# Altium schematic symbol library Crystal GOST.SchLib: 4 symbols
Pins are listed as number, name and electrical type; pins without a type are passive.

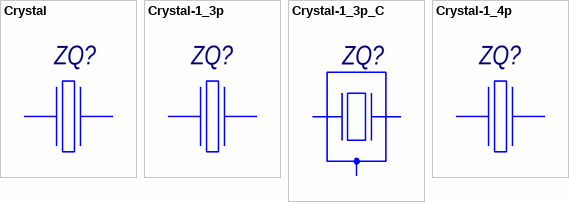
[diagram p0: symbols Crystal to Crystal-1_4p]

## Crystal
designator ZQ?
Published: 08.03.2013; Publisher: Andrew Danich; Type: Резонатор
pins: 1, 3

## Crystal-1_3p
designator ZQ?
Published: 12.09.2014; Publisher: Andrew Danich; Type: Резонатор
pins: 1, 3

## Crystal-1_3p_C
designator ZQ?
Published: 27.08.2015; Publisher: Andrew Danich; Type: Резонатор
pins: 1, 2, 3

## Crystal-1_4p
designator ZQ?
Published: 12.09.2014; Publisher: Andrew Danich; Type: Резонатор
pins: 1, 4